# EAGLE library part 54202-G08-03 (library ruark2)
Connector Header Surface Mount 6 position 0.100" (2.54mm)
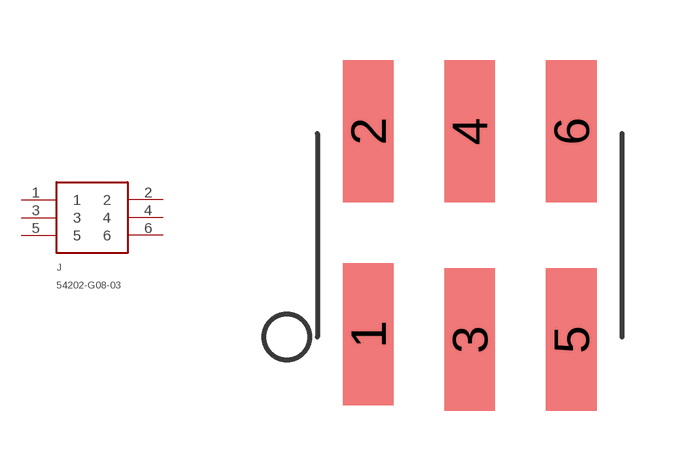
[diagram p164: symbol with the pads of 6-SMT-HEADER; footprint 6-SMT-HEADER]

Designator prefix J

## 54202-G08-03 (PARTNO: 609-5602-ND)  [6-SMT-HEADER]
1  1
2  2
3  3
4  4
5  5
6  6

## Footprint 6-SMT-HEADER (pad centres in mm)
smd 1.27 x 3.556: 1 -2.54,-2.477; 2 -2.54,2.603; 3 0,-2.603; 4 0,2.603; 5 2.54,-2.603; 6 2.54,2.603